# EAGLE library part ORESAT-DEBUG-CONNECTOR (library oresat-edge_connector)
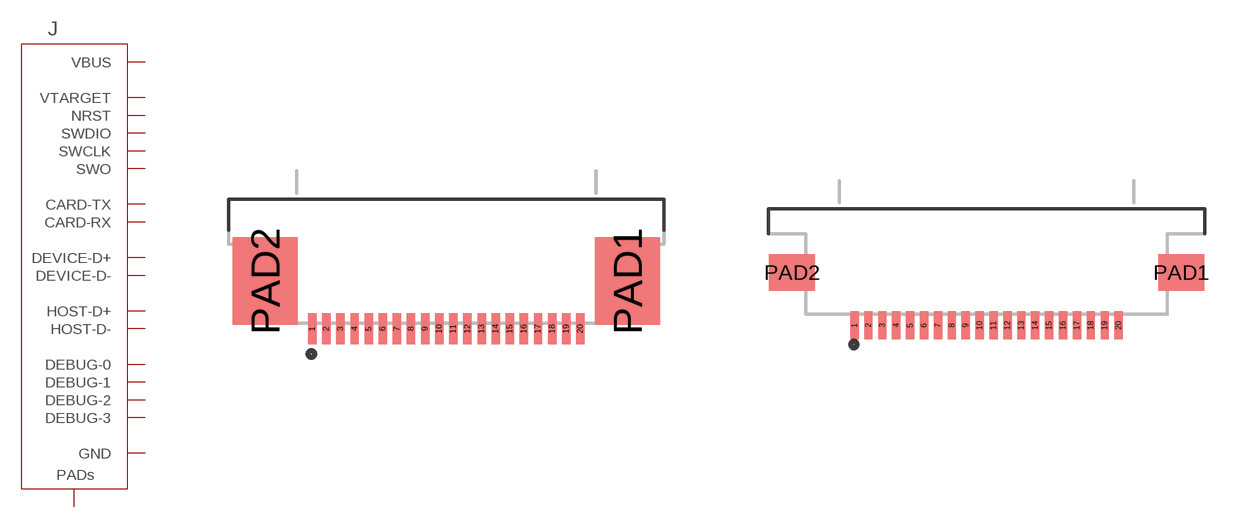
[diagram p0: symbol with the pads of TE_2-1734592-0; footprints TE_2-1734592-0, WURTH_687120183622]

Designator prefix J

## ORESAT-DEBUG-CONNECTOR-CARD  [TE_2-1734592-0]
1  VBUS  pas
2  VBUS  pas
3  GND  pas
4  DEVICE-D+  pas
5  DEVICE-D-  pas
6  GND  pas
7  HOST-D+  pas
8  HOST-D-  pas
9  GND  pas
10  NRST  pas
11  VTARGET  pas
12  CARD-RX  pas
13  CARD-TX  pas
14  SWDIO  pas
15  SWCLK  pas
16  SWO  pas
17  DEBUG-0  pas
18  DEBUG-1  pas
19  DEBUG-2  pas
20  DEBUG-3  pas
PAD1  PAD
PAD2  PAD

## ORESAT-DEBUG-CONNECTOR-SOLAR  [WURTH_687120183622]
Pads as for TE_2-1734592-0

## Footprint TE_2-1734592-0 (pad centres in mm)
smd 0.3 x 1.1: 1 -4.75,-1.7; 2 -4.25,-1.7; 3 -3.75,-1.7; 4 -3.25,-1.7; 5 -2.75,-1.7; 6 -2.25,-1.7; 7 -1.75,-1.7; 8 -1.25,-1.7; 9 -0.75,-1.7; 10 -0.25,-1.7; 11 0.25,-1.7; 12 0.75,-1.7; 13 1.25,-1.7; 14 1.75,-1.7; 15 2.25,-1.7; 16 2.75,-1.7; 17 3.25,-1.7; 18 3.75,-1.7; 19 4.25,-1.7; 20 4.75,-1.7
smd 2.3 x 3.1: PAD1 6.42,0; PAD2 -6.42,0

## Footprint WURTH_687120183622 (pad centres in mm)
smd 0.3 x 1: 1 -4.75,-1.9; 2 -4.25,-1.9; 3 -3.75,-1.9; 4 -3.25,-1.9; 5 -2.75,-1.9; 6 -2.25,-1.9; 7 -1.75,-1.9; 8 -1.25,-1.9; 9 -0.75,-1.9; 10 -0.25,-1.9; 11 0.25,-1.9; 12 0.75,-1.9; 13 1.25,-1.9; 14 1.75,-1.9; 15 2.25,-1.9; 16 2.75,-1.9; 17 3.25,-1.9; 18 3.75,-1.9; 19 4.25,-1.9; 20 4.75,-1.9
smd 1.65 x 1.3: PAD1 7,0; PAD2 -7,0